# Altium footprint library CHIP.PcbLib: 18 footprints (part 2 of 2)
Each footprint in its own frame and in the unit in brackets; x right, y up, seen from the top. Pads: shape width x height; smd on the part's side, far side on the other; paste and mask are expansions set on the pad; w line width, h text height; cw(c..) or ccw(c..) is an arc to the next point about the centre after c.
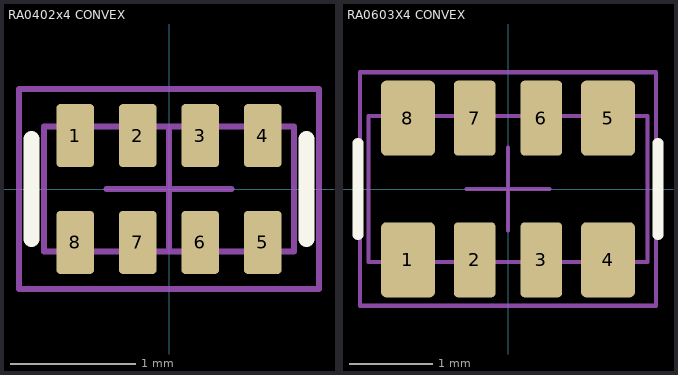
[diagram p1: the footprints below, top view; thin cyan lines are the x and y axes]

## RA0402x4 CONVEX [mm]
pads (8):
  rrect20% 0.3x0.505 smd paste+0 mask+0.05: 1(-0.75,0.427) 2(-0.25,0.427) 3(0.25,0.427) 4(0.75,0.427) 5(0.75,-0.427) 6(0.25,-0.427) 7(-0.25,-0.427) 8(-0.75,-0.427)
Top Overlay:
  lines w0.127: -1.1,-0.4 -1.1,0.4 ; 1.1,-0.4 1.1,0.4
Top Assembly:
  lines w0.05: -1,-0.5 -1,0.5 1,0.5 1,-0.5 -1,-0.5
Top Courtyard:
  lines w0.05: -1.2,-0.8 1.2,-0.8 1.2,0.8 -1.2,0.8 -1.2,-0.8
Top Component Center:
  lines w0.05: -0.5,0 0.5,0 ; 0,-0.5 0,0.5
3D body "0804 YC124 Convex.step": height 0.45, standoff 0, extent -1,-0.5 1,0.5

## RA0603X4 CONVEX [mm]
height 1
pads (8):
  rrect20% 0.65x0.9 smd paste+0 mask+0.05: 1(-1.2,-0.85) 4(1.2,-0.85) 5(1.2,0.85) 8(-1.2,0.85)
  rrect20% 0.5x0.9 smd paste+0 mask+0.05: 2(-0.4,-0.85) 3(0.4,-0.85) 6(0.4,0.85) 7(-0.4,0.85)
Top Overlay:
  lines w0.127: -1.8,-0.55 -1.8,0.55 ; 1.8,-0.55 1.8,0.55
Top Assembly:
  lines w0.05: -1.675,-0.875 1.675,-0.875 1.675,0.875 -1.675,0.875 -1.675,-0.875
Top Courtyard:
  lines w0.05: -1.775,-1.4 -1.775,1.4 1.775,1.4 1.775,-1.4 -1.775,-1.4
Top Component Center:
  lines w0.05: -0.5,0 0.5,0 ; 0,-0.5 0,0.5
3D body "1206 YC164 Convex.step": height 0.6, standoff 0, extent -1.6,-0.8 1.6,0.8